# EAGLE library part TMUX1108 (library ICs)
TMUX1108 5V / ±2.5V, Low-Leakage-Current, 8:1 Precision Multiplexer
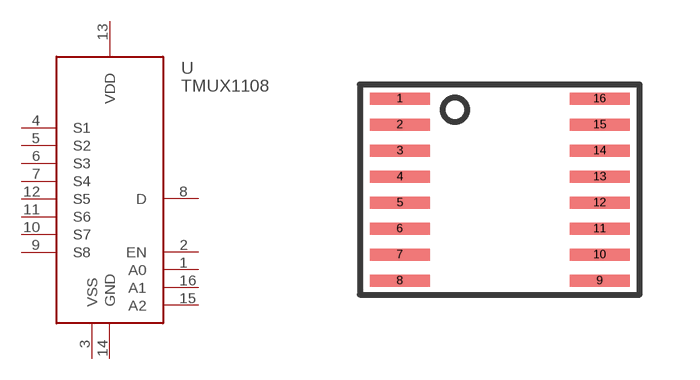
[diagram p232: symbol with the pads of SSOP16-4.5MM; footprint SSOP16-4.5MM]

Designator prefix U

## TMUX1108 (DIGIKEY: 296-53256-1-ND; HEIGHT: 1; PRICE_PER: 2.58; VALUE: 8:1 MUX BIDIR)  [SSOP16-4.5MM]
1  A0
2  EN
3  VSS
4  S1
5  S2
6  S3
7  S4
8  D
9  S8
10  S7
11  S6
12  S5
13  VDD
14  GND
15  A2
16  A1

## Footprint SSOP16-4.5MM (pad centres in mm)
smd 1.5 x 0.3: 1 -2.5,2.275; 2 -2.5,1.625; 3 -2.5,0.975; 4 -2.5,0.325; 5 -2.5,-0.325; 6 -2.5,-0.975; 7 -2.5,-1.625; 8 -2.5,-2.275; 9 2.5,-2.275; 10 2.5,-1.625; 11 2.5,-0.975; 12 2.5,-0.325; 13 2.5,0.325; 14 2.5,0.975; 15 2.5,1.625; 16 2.5,2.275